# EAGLE library part MAX9939 (library chips_old)
spi programmable differential amplifier
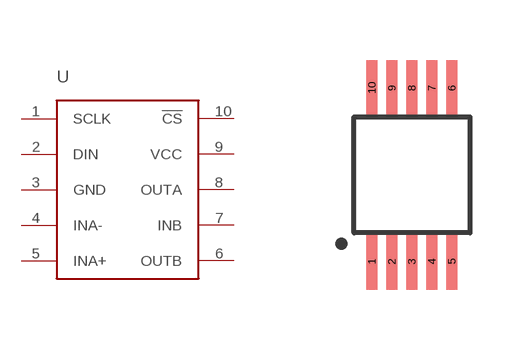
[diagram p41: symbol with the pads of UMAX10; footprint UMAX10]

Designator prefix -

## MAX9939 (DIGIKEY: MAX9939AUB+-ND)  [UMAX10]
1  SCLK
2  DIN
3  GND
4  INA-
5  INA+
6  OUTB
7  INB
8  OUTA
9  VCC
10  !CS

## Footprint UMAX10 (pad centres in mm)
smd 0.28 x 1.4: 1 -1,-2.17; 2 -0.5,-2.17; 3 0,-2.17; 4 0.5,-2.17; 5 1,-2.17; 6 1,2.17; 7 0.5,2.17; 8 0,2.17; 9 -0.5,2.17; 10 -1,2.17